# EAGLE library part PINHD-2X8 (library pinhead)
PIN HEADER
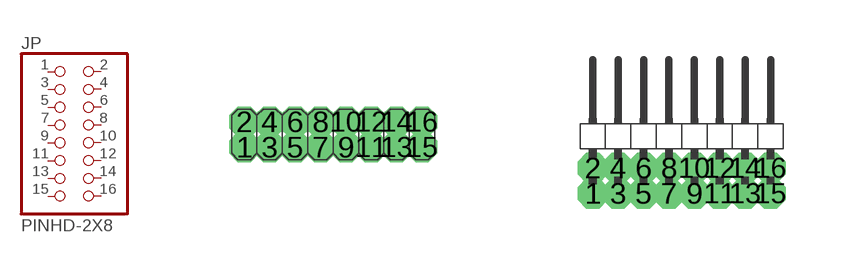
[diagram p25: symbol with the pads of 2X08; footprints 2X08, 2X08/90]

Designator prefix JP

## PINHD-2X8  [2X08]
1  1  pas
2  2  pas
3  3  pas
4  4  pas
5  5  pas
6  6  pas
7  7  pas
8  8  pas
9  9  pas
10  10  pas
11  11  pas
12  12  pas
13  13  pas
14  14  pas
15  15  pas
16  16  pas

## PINHD-2X8/90  [2X08/90]
Pads as for 2X08

## Footprint 2X08 (pad centres in mm)
PIN HEADER
drill 0.254 octagon: 1 -2.223,-0.318; 2 -2.223,0.318; 3 -1.587,-0.318; 4 -1.587,0.318; 5 -0.953,-0.318; 6 -0.953,0.318; 7 -0.318,-0.318; 8 -0.318,0.318; 9 0.318,-0.318; 10 0.318,0.318; 11 0.953,-0.318; 12 0.953,0.318; 13 1.587,-0.318; 14 1.587,0.318; 15 2.223,-0.318; 16 2.223,0.318

## Footprint 2X08/90 (pad centres in mm)
PIN HEADER
drill 0.254 octagon: 1 -2.223,-1.587; 2 -2.223,-0.953; 3 -1.587,-1.587; 4 -1.587,-0.953; 5 -0.953,-1.587; 6 -0.953,-0.953; 7 -0.318,-1.587; 8 -0.318,-0.953; 9 0.318,-1.587; 10 0.318,-0.953; 11 0.953,-1.587; 12 0.953,-0.953; 13 1.587,-1.587; 14 1.587,-0.953; 15 2.223,-1.587; 16 2.223,-0.953